# Altium footprint library varistor.PCBLIB: 90 footprints (part 5 of 6)
Each footprint in its own frame and in the unit in brackets; x right, y up, seen from the top. Pads: shape width x height; smd on the part's side, far side on the other; paste and mask are expansions set on the pad; w line width, h text height; cw(c..) or ccw(c..) is an arc to the next point about the centre after c.
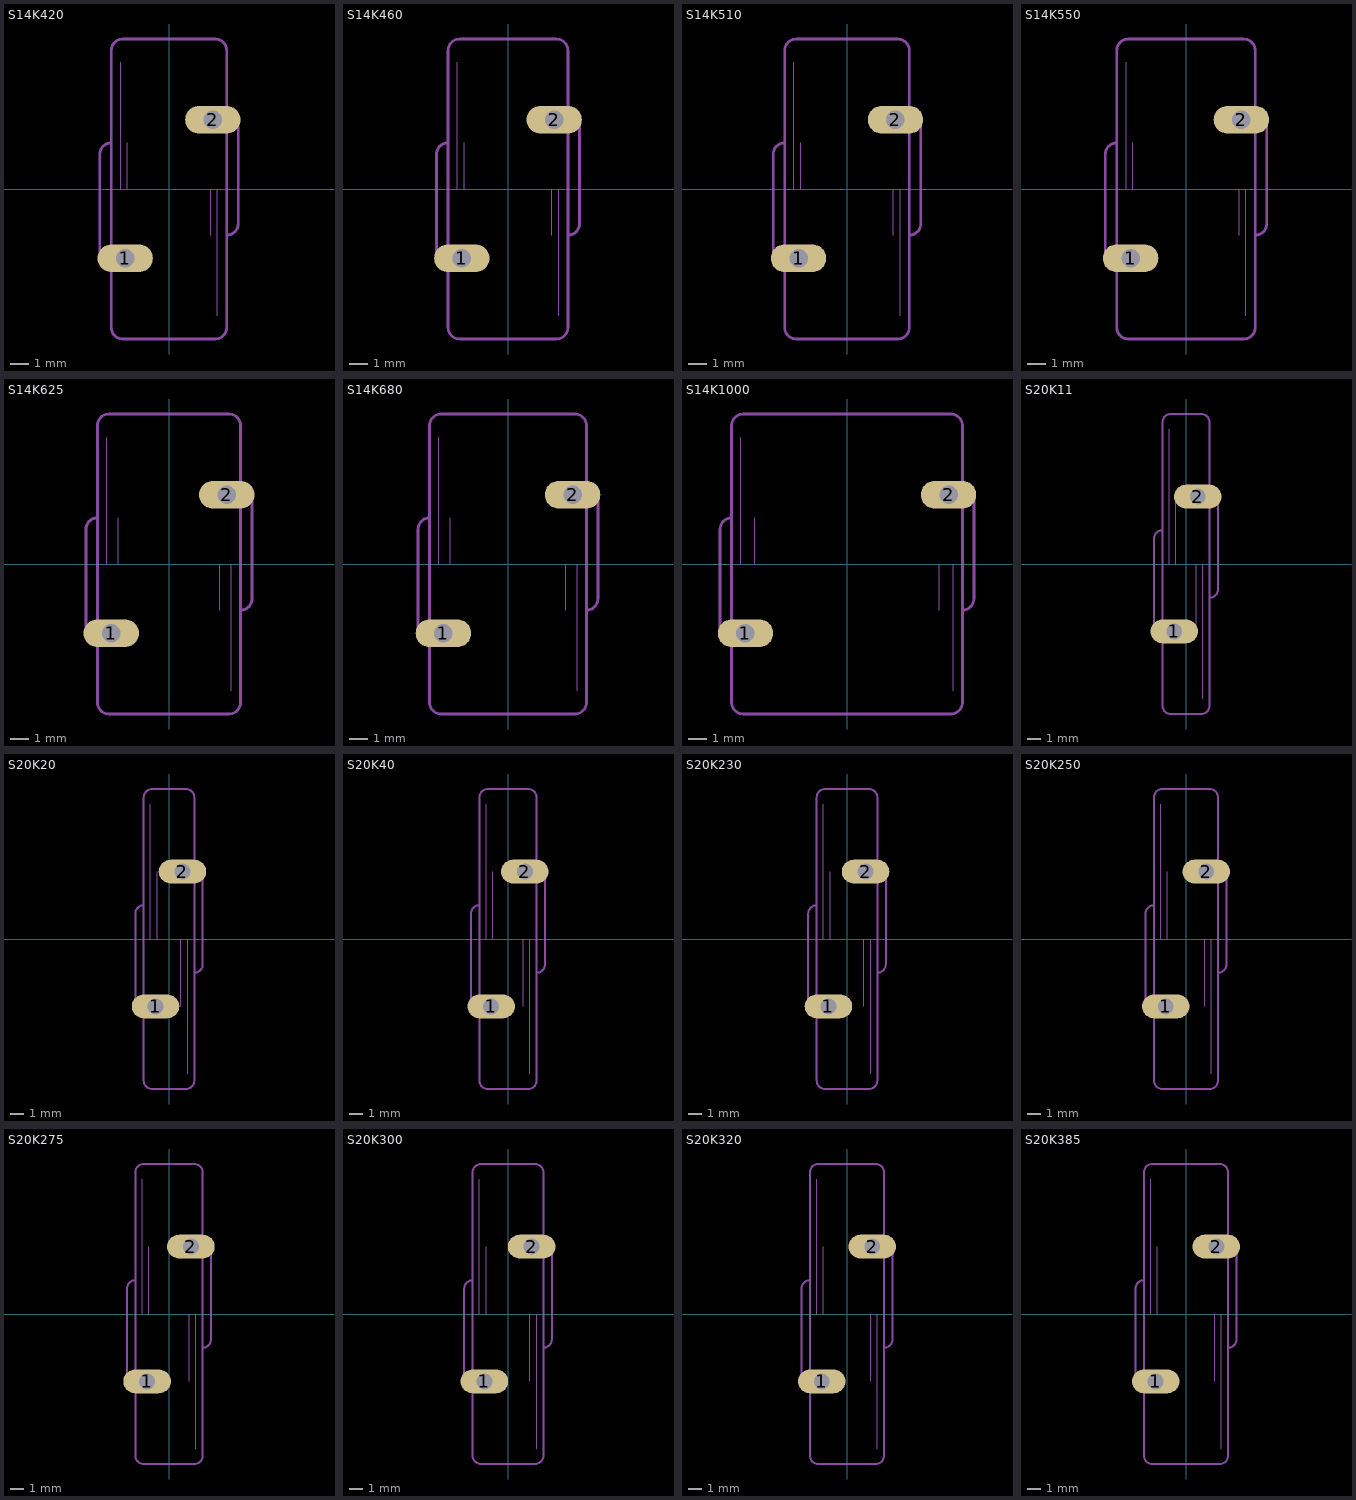
[diagram p4: the footprints below, top view; thin cyan lines are the x and y axes]

## S14K420 [mil]
pads (2):
  oval 120x60 hole 40: 1(-95,-150) 2(95,150)
Mechanical 2:
  lines w2: -105,0 -105,275 ; -90,0 -90,100 ; 90,-100 90,0 ; 105,-275 105,0
  lines w6: -150,-145 -150,75 cw(c-125,75) -125,100 ; -125,-195 -125,-300 ccw(c-100,-300) -100,-325 100,-325 ccw(c100,-300) 125,-300 125,105 ; -125,-105 -125,300 cw(c-100,300) -100,325 100,325 cw(c100,300) 125,300 125,195 ; 125,-100 ccw(c125,-75) 150,-75 150,145
Mechanical 18:
  lines w6: -150,-145 ccw(c-125,-145) -125,-170 ; -125,-195 -125,-105 ; 125,105 125,195 ; 125,170 cw(c125,145) 150,145

## S14K460 [mil]
pads (2):
  oval 120x60 hole 40: 1(-100,-150) 2(100,150)
Mechanical 2:
  lines w2: -110,0 -110,275 ; -95,0 -95,100 ; 95,-100 95,0 ; 110,-275 110,0
  lines w6: -155,-145 -155,75 cw(c-130,75) -130,100 ; -130,-195 -130,-300 ccw(c-105,-300) -105,-325 105,-325 ccw(c105,-300) 130,-300 130,105 ; -130,-105 -130,300 cw(c-105,300) -105,325 105,325 cw(c105,300) 130,300 130,195 ; 130,-100 ccw(c130,-75) 155,-75 155,145
Mechanical 18:
  lines w6: -155,-145 ccw(c-130,-145) -130,-170 ; -130,-195 -130,-105 ; 130,105 130,195 ; 130,170 cw(c130,145) 155,145

## S14K510 [mil]
pads (2):
  oval 120x60 hole 40: 1(-105,-150) 2(105,150)
Mechanical 2:
  lines w2: -115,0 -115,275 ; -100,0 -100,100 ; 100,-100 100,0 ; 115,-275 115,0
  lines w6: -160,-145 -160,75 cw(c-135,75) -135,100 ; -135,-195 -135,-300 ccw(c-110,-300) -110,-325 110,-325 ccw(c110,-300) 135,-300 135,105 ; -135,-105 -135,300 cw(c-110,300) -110,325 110,325 cw(c110,300) 135,300 135,195 ; 135,-100 ccw(c135,-75) 160,-75 160,145
Mechanical 18:
  lines w6: -160,-145 ccw(c-135,-145) -135,-170 ; -135,-195 -135,-105 ; 135,105 135,195 ; 135,170 cw(c135,145) 160,145

## S14K550 [mil]
pads (2):
  oval 120x60 hole 40: 1(-120,-150) 2(120,150)
Mechanical 2:
  lines w2: -130,0 -130,275 ; -115,0 -115,100 ; 115,-100 115,0 ; 130,-275 130,0
  lines w6: -175,-145 -175,75 cw(c-150,75) -150,100 ; -150,-195 -150,-300 ccw(c-125,-300) -125,-325 125,-325 ccw(c125,-300) 150,-300 150,105 ; -150,-105 -150,300 cw(c-125,300) -125,325 125,325 cw(c125,300) 150,300 150,195 ; 150,-100 ccw(c150,-75) 175,-75 175,145
Mechanical 18:
  lines w6: -175,-145 ccw(c-150,-145) -150,-170 ; -150,-195 -150,-105 ; 150,105 150,195 ; 150,170 cw(c150,145) 175,145

## S14K625 [mil]
pads (2):
  oval 120x60 hole 40: 1(-125,-150) 2(125,150)
Mechanical 2:
  lines w2: -135,0 -135,275 ; -110,0 -110,100 ; 110,-100 110,0 ; 135,-275 135,0
  lines w6: -180,-145 -180,75 cw(c-155,75) -155,100 ; -155,-195 -155,-300 ccw(c-130,-300) -130,-325 130,-325 ccw(c130,-300) 155,-300 155,105 ; -155,-105 -155,300 cw(c-130,300) -130,325 130,325 cw(c130,300) 155,300 155,195 ; 155,-100 ccw(c155,-75) 180,-75 180,145
Mechanical 18:
  lines w6: -180,-145 ccw(c-155,-145) -155,-170 ; -155,-195 -155,-105 ; 155,105 155,195 ; 155,170 cw(c155,145) 180,145

## S14K680 [mil]
pads (2):
  oval 120x60 hole 40: 1(-140,-150) 2(140,150)
Mechanical 2:
  lines w2: -150,0 -150,275 ; -125,0 -125,100 ; 125,-100 125,0 ; 150,-275 150,0
  lines w6: -195,-145 -195,75 cw(c-170,75) -170,100 ; -170,-195 -170,-300 ccw(c-145,-300) -145,-325 145,-325 ccw(c145,-300) 170,-300 170,105 ; -170,-105 -170,300 cw(c-145,300) -145,325 145,325 cw(c145,300) 170,300 170,195 ; 170,-100 ccw(c170,-75) 195,-75 195,145
Mechanical 18:
  lines w6: -195,-145 ccw(c-170,-145) -170,-170 ; -170,-195 -170,-105 ; 170,105 170,195 ; 170,170 cw(c170,145) 195,145

## S14K1000 [mil]
pads (2):
  oval 120x60 hole 40: 1(-220,-150) 2(220,150)
Mechanical 2:
  lines w2: -230,0 -230,275 ; -200,0 -200,100 ; 200,-100 200,0 ; 230,-275 230,0
  lines w6: -275,-145 -275,75 cw(c-250,75) -250,100 ; -250,-195 -250,-300 ccw(c-225,-300) -225,-325 225,-325 ccw(c225,-300) 250,-300 250,105 ; -250,-105 -250,300 cw(c-225,300) -225,325 225,325 cw(c225,300) 250,300 250,195 ; 250,-100 ccw(c250,-75) 275,-75 275,145
Mechanical 18:
  lines w6: -275,-145 ccw(c-250,-145) -250,-170 ; -250,-195 -250,-105 ; 250,105 250,195 ; 250,170 cw(c250,145) 275,145

## S20K11 [mil]
pads (2):
  oval 141x70.5 hole 47: 1(-35,-200) 2(35,200)
Mechanical 2:
  lines w2: -50,0 -50,400 ; -30,0 -30,200 ; 30,-200 30,0 ; 50,-400 50,0
  lines w6: -95,-195 -95,75 cw(c-70,75) -70,100 ; -70,-245 -70,-420 ccw(c-45,-420) -45,-445 45,-445 ccw(c45,-420) 70,-420 70,155 ; -70,-155 -70,420 cw(c-45,420) -45,445 45,445 cw(c45,420) 70,420 70,245 ; 70,-100 ccw(c70,-75) 95,-75 95,195
Mechanical 18:
  lines w6: -95,-195 ccw(c-70,-195) -70,-220 ; -70,-245 -70,-155 ; 70,155 70,245 ; 70,220 cw(c70,195) 95,195

## S20K20 [mil]
pads (2):
  oval 141x70.5 hole 47: 1(-40,-200) 2(40,200)
Mechanical 2:
  lines w2: -55,0 -55,400 ; -35,0 -35,200 ; 35,-200 35,0 ; 55,-400 55,0
  lines w6: -100,-195 -100,75 cw(c-75,75) -75,100 ; -75,-245 -75,-420 ccw(c-50,-420) -50,-445 50,-445 ccw(c50,-420) 75,-420 75,155 ; -75,-155 -75,420 cw(c-50,420) -50,445 50,445 cw(c50,420) 75,420 75,245 ; 75,-100 ccw(c75,-75) 100,-75 100,195
Mechanical 18:
  lines w6: -100,-195 ccw(c-75,-195) -75,-220 ; -75,-245 -75,-155 ; 75,155 75,245 ; 75,220 cw(c75,195) 100,195

## S20K40 [mil]
pads (2):
  oval 141x70.5 hole 47: 1(-50,-200) 2(50,200)
Mechanical 2:
  lines w2: -65,0 -65,400 ; -45,0 -45,200 ; 45,-200 45,0 ; 65,-400 65,0
  lines w6: -110,-195 -110,75 cw(c-85,75) -85,100 ; -85,-245 -85,-420 ccw(c-60,-420) -60,-445 60,-445 ccw(c60,-420) 85,-420 85,155 ; -85,-155 -85,420 cw(c-60,420) -60,445 60,445 cw(c60,420) 85,420 85,245 ; 85,-100 ccw(c85,-75) 110,-75 110,195
Mechanical 18:
  lines w6: -110,-195 ccw(c-85,-195) -85,-220 ; -85,-245 -85,-155 ; 85,155 85,245 ; 85,220 cw(c85,195) 110,195

## S20K230 [mil]
pads (2):
  oval 141x70.5 hole 47: 1(-55,-200) 2(55,200)
Mechanical 2:
  lines w2: -70,0 -70,400 ; -50,0 -50,200 ; 50,-200 50,0 ; 70,-400 70,0
  lines w6: -115,-195 -115,75 cw(c-90,75) -90,100 ; -90,-245 -90,-420 ccw(c-65,-420) -65,-445 65,-445 ccw(c65,-420) 90,-420 90,155 ; -90,-155 -90,420 cw(c-65,420) -65,445 65,445 cw(c65,420) 90,420 90,245 ; 90,-100 ccw(c90,-75) 115,-75 115,195
Mechanical 18:
  lines w6: -115,-195 ccw(c-90,-195) -90,-220 ; -90,-245 -90,-155 ; 90,155 90,245 ; 90,220 cw(c90,195) 115,195

## S20K250 [mil]
pads (2):
  oval 141x70.5 hole 47: 1(-60,-200) 2(60,200)
Mechanical 2:
  lines w2: -75,0 -75,400 ; -55,0 -55,200 ; 55,-200 55,0 ; 75,-400 75,0
  lines w6: -120,-195 -120,75 cw(c-95,75) -95,100 ; -95,-245 -95,-420 ccw(c-70,-420) -70,-445 70,-445 ccw(c70,-420) 95,-420 95,155 ; -95,-155 -95,420 cw(c-70,420) -70,445 70,445 cw(c70,420) 95,420 95,245 ; 95,-100 ccw(c95,-75) 120,-75 120,195
Mechanical 18:
  lines w6: -120,-195 ccw(c-95,-195) -95,-220 ; -95,-245 -95,-155 ; 95,155 95,245 ; 95,220 cw(c95,195) 120,195

## S20K275 [mil]
pads (2):
  oval 141x70.5 hole 47: 1(-65,-200) 2(65,200)
Mechanical 2:
  lines w2: -80,0 -80,400 ; -60,0 -60,200 ; 60,-200 60,0 ; 80,-400 80,0
  lines w6: -125,-195 -125,75 cw(c-100,75) -100,100 ; -100,-245 -100,-420 ccw(c-75,-420) -75,-445 75,-445 ccw(c75,-420) 100,-420 100,155 ; -100,-155 -100,420 cw(c-75,420) -75,445 75,445 cw(c75,420) 100,420 100,245 ; 100,-100 ccw(c100,-75) 125,-75 125,195
Mechanical 18:
  lines w6: -125,-195 ccw(c-100,-195) -100,-220 ; -100,-245 -100,-155 ; 100,155 100,245 ; 100,220 cw(c100,195) 125,195

## S20K300 [mil]
pads (2):
  oval 141x70.5 hole 47: 1(-70,-200) 2(70,200)
Mechanical 2:
  lines w2: -85,0 -85,400 ; -65,0 -65,200 ; 65,-200 65,0 ; 85,-400 85,0
  lines w6: -130,-195 -130,75 cw(c-105,75) -105,100 ; -105,-245 -105,-420 ccw(c-80,-420) -80,-445 80,-445 ccw(c80,-420) 105,-420 105,155 ; -105,-155 -105,420 cw(c-80,420) -80,445 80,445 cw(c80,420) 105,420 105,245 ; 105,-100 ccw(c105,-75) 130,-75 130,195
Mechanical 18:
  lines w6: -130,-195 ccw(c-105,-195) -105,-220 ; -105,-245 -105,-155 ; 105,155 105,245 ; 105,220 cw(c105,195) 130,195

## S20K320 [mil]
pads (2):
  oval 141x70.5 hole 47: 1(-75,-200) 2(75,200)
Mechanical 2:
  lines w2: -90,0 -90,400 ; -70,0 -70,200 ; 70,-200 70,0 ; 90,-400 90,0
  lines w6: -135,-195 -135,75 cw(c-110,75) -110,100 ; -110,-245 -110,-420 ccw(c-85,-420) -85,-445 85,-445 ccw(c85,-420) 110,-420 110,155 ; -110,-155 -110,420 cw(c-85,420) -85,445 85,445 cw(c85,420) 110,420 110,245 ; 110,-100 ccw(c110,-75) 135,-75 135,195
Mechanical 18:
  lines w6: -135,-195 ccw(c-110,-195) -110,-220 ; -110,-245 -110,-155 ; 110,155 110,245 ; 110,220 cw(c110,195) 135,195

## S20K385 [mil]
pads (2):
  oval 141x70.5 hole 47: 1(-90,-200) 2(90,200)
Mechanical 2:
  lines w2: -105,0 -105,400 ; -85,0 -85,200 ; 85,-200 85,0 ; 105,-400 105,0
  lines w6: -150,-195 -150,75 cw(c-125,75) -125,100 ; -125,-245 -125,-420 ccw(c-100,-420) -100,-445 100,-445 ccw(c100,-420) 125,-420 125,155 ; -125,-155 -125,420 cw(c-100,420) -100,445 100,445 cw(c100,420) 125,420 125,245 ; 125,-100 ccw(c125,-75) 150,-75 150,195
Mechanical 18:
  lines w6: -150,-195 ccw(c-125,-195) -125,-220 ; -125,-245 -125,-155 ; 125,155 125,245 ; 125,220 cw(c125,195) 150,195